# Altium footprint library PCB - CONNECTOR - ABRACON ARMJ11.PCBLIB: 1 footprints
Each footprint in its own frame and in the unit in brackets; x right, y up, seen from the top. Pads: shape width x height; smd on the part's side, far side on the other; paste and mask are expansions set on the pad; w line width, h text height; cw(c..) or ccw(c..) is an arc to the next point about the centre after c.
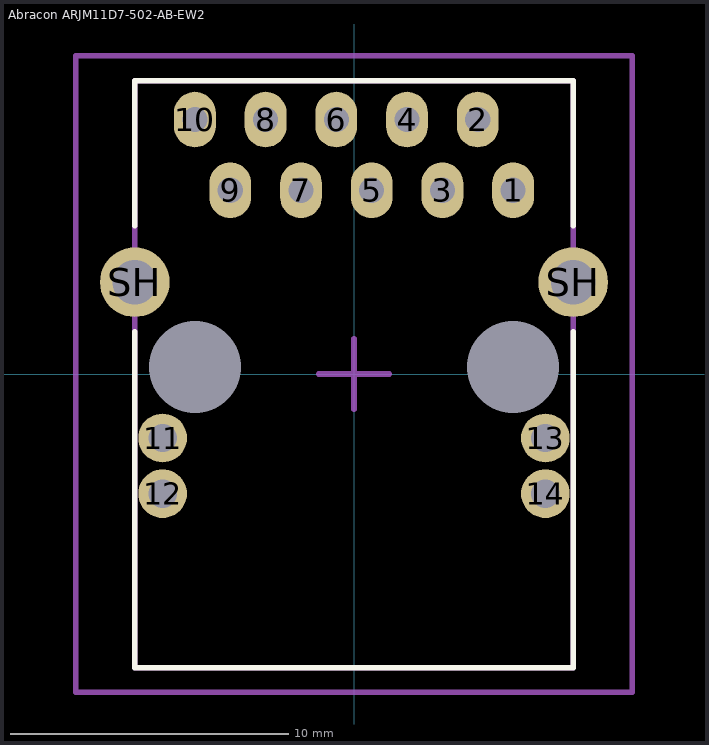
[diagram p0: the footprint, top view; thin cyan lines are the x and y axes]

## Abracon ARJM11D7-502-AB-EW2 [mm]
height 13.55
pads (18):
  oval 1.5x2 hole 0.9: 1(5.715,6.6) 2(4.445,9.14) 3(3.175,6.6) 4(1.905,9.14) 5(0.635,6.6) 6(-0.635,9.14) 7(-1.905,6.6) 8(-3.175,9.14) 9(-4.445,6.6) 10(-5.715,9.14)
  round 1.75 hole 1.02: 11(-6.875,-2.3) 12(-6.875,-4.3) 13(6.875,-2.3) 14(6.875,-4.3)
  round 0 hole 3.3 unplated: M(-5.715,0.25) M(5.715,0.25)
  round 2.5 hole 1.6: SH(-7.875,3.3) SH(7.875,3.3)
Top Overlay:
  lines w0.2: -7.874,1.52 -7.874,-10.545 0,-10.545 7.874,-10.545 7.874,1.52 ; -7.874,5.33 -7.874,10.537 0,10.537 7.874,10.537 7.874,5.33
Mechanical 1:
  lines w0.2: -7.874,-10.545 7.874,-10.545 7.874,10.537 -7.874,10.537 -7.874,-10.545
Mechanical 15:
  lines w0.2: -1.27,0 1.27,0 ; 0,-1.27 0,1.27 ; -10,-11.43 10,-11.43 10,11.43 -10,11.43 -10,-11.43
3D body "Abracon - ARJM11D7-502-AB-EW2.STEP": height 13.8, standoff -3.6, extent -7.99,-10.545 7.99,11.105